# EAGLE library part 20021521-00010C1LF (library 20021521-00010C1LF)
Check availability <https://pricing.snapeda.com/parts/20021521-00010C1LF/AMPHENOL%20ICC%20/%20FCI/view-part?ref=eda>
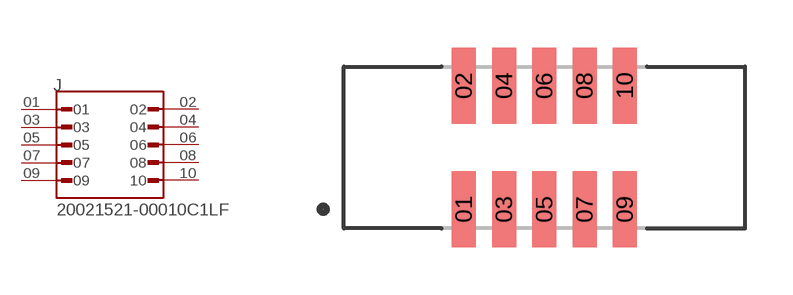
[diagram p0: symbol with the pads of AMPHENOL_20021521-00010C1LF; footprint AMPHENOL_20021521-00010C1LF]

Designator prefix J

## 20021521-00010C1LF (Availability: In Stock; Check_prices: https://www.snapeda.com/parts/20021521-00010C1LF/Amphenol/view-part/?ref=eda; Description: Minitek127®, Shrouded Board to Board Header, Surface Mount, 10 positions, 1.27mm (0.500in) pitch.; MF: AMPHENOL ICC / FCI; MP: 20021521-00010C1LF; Package: None; Price: None; Purchase-URL: https://www.snapeda.com/api/url_track_click_mouser/?unipart_id=6036216&manufacturer=AMPHENOL ICC / FCI&part_name=20021521-00010C1LF&search_term=20021521-00010c1lf; SnapEDA_Link: https://www.snapeda.com/parts/20021521-00010C1LF/Amphenol/view-part/?ref=snap)  [AMPHENOL_20021521-00010C1LF]
01  01  pas
02  02  pas
03  03  pas
04  04  pas
05  05  pas
06  06  pas
07  07  pas
08  08  pas
09  09  pas
10  10  pas

## Footprint AMPHENOL_20021521-00010C1LF (pad centres in mm)
smd 0.76 x 2.4: 01 -2.54,-1.95; 02 -2.54,1.95; 03 -1.27,-1.95; 04 -1.27,1.95; 05 0,-1.95; 06 0,1.95; 07 1.27,-1.95; 08 1.27,1.95; 09 2.54,-1.95; 10 2.54,1.95